# Altium schematic symbol library ProtoWatch_Compiled.SCHLIB: 48 symbols
Pins are listed as number, name and electrical type; pins without a type are passive.

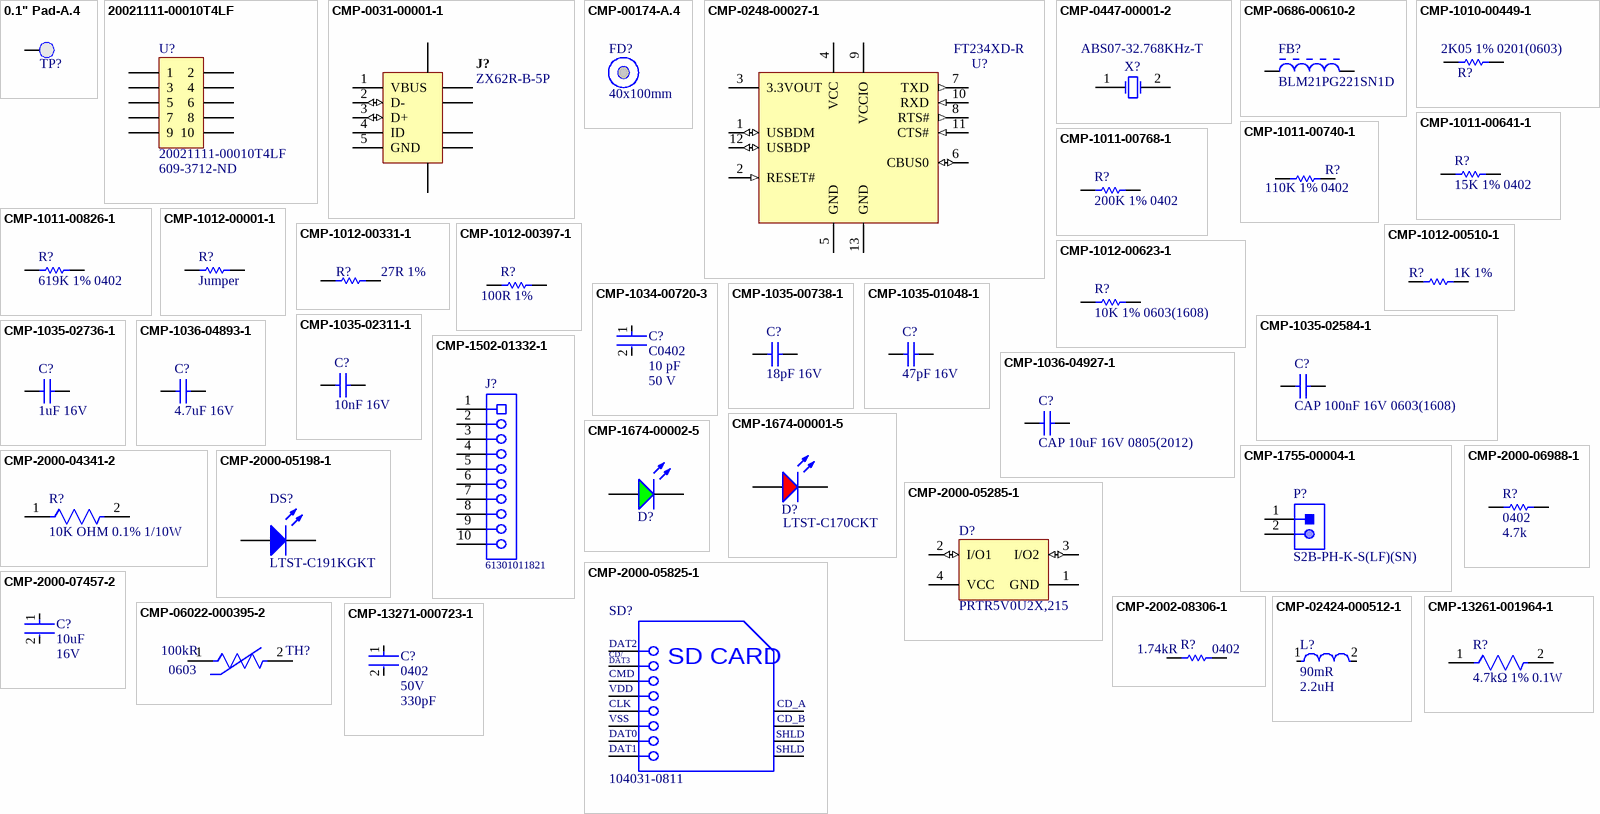
[diagram p0: symbols 0.1" Pad-A.4 to CMP-13271-000723-1]

## 0.1" Pad-A.4
designator TP?, comment 0.1" Pad  (value not drawn)  (no BOM)
footprint PCBComponent
pins: 1 PAD

## 20021111-00010T4LF
designator U?  Supplier Part Number 1: 609-3712-ND
CONN HEADER 10POS UNSHD VERT T/H; Manufacturer: Amphenol / FCI; Stack Height: 2.5 mm; Number of Positions / Contacts: 10; Brand: FCI; Pitch: 1.27 mm; Mounting Angle: Vertical; Current Rating: 10 A; Mating Post Length: 3.05 mm; Voltage Rating: 125 V; Manufacturer Part Number: 20021111-00010T4LF; Mounting Style: Through Hole; Product Category: Headers & Wire Housings; RoHS: Details; Series: Minitek; Product Type: Headers; Type: Unshrouded; Number of Positions: 10; Number of Rows: 2; Contact Plating: Gold; Housing Material: Plastic; Termination Style: Through Hole; Contact Material: Nickel; Packaging: Tube; Factory Pack Quantity: 93; Termination Post Length: 2.3 mm; ComponentLink1URL: https://datasheet.ciiva.com/1433/1079612-1433267.pdf; ComponentLink1Description: https://datasheet.ciiva.com/1433/1079612-1433267.pdf; ComponentLink2URL: https://datasheet.ciiva.com/409/20021111-409158.pdf; ComponentLink2Description: https://datasheet.ciiva.com/409/20021111-409158.pdf; ComponentLink3URL: https://datasheet.ciiva.com/5131/20021111-5131386.pdf; ComponentLink3Description: https://datasheet.ciiva.com/5131/20021111-5131386.pdf; ComponentLink4URL: https://datasheet.ciiva.com/9465/20021111-9465402.pdf; ComponentLink4Description: https://datasheet.ciiva.com/9465/20021111-9465402.pdf; Supplier 1: Digi-Key
footprint 20021111-00010T4LF (CONN HEADER 10POS UNSHD VERT T/H)
pins: 1, 2, 3, 4, 5, 6, 7, 8, 9, 10

## CMP-0031-00001-1
designator J?, comment ZX62R-B-5P
Connector; USBMicro-B,Reverse type, SMT; 5 Position; Right Angle; Manufacturer: Hirose; DatasheetVersion: 08/2010; Operating Temperature: -30 to 85 degC; Mounting Technology: Surface Mount; PartNumber: ZX62R-B-5P; PackageReference: ZX62R-B-5P; ComponentLink2URL: http://www.hirose.co.jp/cataloge_hp/e24200011.pdf; ComponentLink1URL: http://www.hirose.com/â€Ž; ComponentLink2Description: Datasheet; PackageDescription: 5-Pin USB Micro-B R/A Connector; ComponentLink1Description: Manufacturer URL; Manufacturer Part Number: ZX62R-B-5P
footprint HIRO-ZX62R-B-5P_V (USB Micro-B R/A Connector)
pins: 1 VBUS (power), 2 D- (io), 3 D+ (io), 4 ID, 5 GND (power), 6 SHLD, 7 SHLD, 8 SHLD, 9 SHLD, 10 SHLD, 11 SHLD

## CMP-00174-A.4
designator FD?, comment 40x100mm  (mechanical)
Fiducial 40x100mm
footprint Fiducial_FT

## CMP-0248-00027-1
designator U?, comment FT234XD-R
FT234XD USB to BASIC UART IC, -40 to +85 degC, 12-Pin DFN, Pb-Free, Tape and Reel; Manufacturer: FTDI; PackageReference: DFN-12; PackageVersion: Feb-13; DatasheetVersion: ver 1.1, Feb-2013; ComponentLink1URL: http://www.ftdichip.com/; PartNumber: FT234XD-R; ComponentLink2URL: http://www.ftdichip.com/Support/Documents/DataSheets/ICs/DS_FT234XD.pdf; ComponentLink1Description: Manufacturer URL; PackageDescription: 12-Pin Dual Flat No-Lead, 3 x 3 mm Body, 0.45 mm Pitch, Exposed Pad; ComponentLink2Description: Datasheet; Manufacturer Part Number: FT234XD-R
footprint DFN-12_V (SON, 12-Leads, Body 3x3mm, Pitch 0.45mm, Thermal Pad 2.5x1.6mm)
pins: 1 USBDM (io) "USB Data Signal Minus.", 2 RESET# (in) "Reset input (active low).", 3 3.3VOUT (power) "3.3V output at 50mA. May be used to power VCCIO. When VCC is 3.3V; pin 3 is an input pin and should be connected to pin 4.", 4 VCC (power) "5 V (or 3.3V) supply to IC", 5 GND (power) "0V Ground input.", 6 CBUS0 (io) "Configurable CBUS I/O Pin. Function of this pin is configured in the device MTP memory. The default configuration is TXDEN.", 7 TXD (out) "Transmit Asynchronous Data Output.", 8 RTS# (out) "Request to Send Control Output / Handshake Signal.", 9 VCCIO (power) "1.8V - 3.3V supply for the IO cells", 10 RXD (in) "Receiving Asynchronous Data Input.", 11 CTS# (in) "Clear To Send Control Input / Handshake Signal.", 12 USBDP (io) "USB Data Signal Plus.", 13 GND (power) "0V Ground input."

## CMP-0447-00001-2
designator X?, comment ABS07-32.768KHz-T
Crystal, 32.768 kHz, 12.5 pF, -40 to 85 degC, SMD Low Profile 3.2 x 1.5 x 0.9 mm, Tape and Reel; Manufacturer: Abracon; Q Value (Type): 30000; Operation Mode: Flexural Mode (Tuning Fork); Shunt Capacitance (C0): 0.9 to 1.2 pF; Load Capacitance (CL): 12.5 pF; Frequency Tolerance @+25degC: +/- 20 ppm; Drive Level (Type): 0.1 uW; Equivalent Series Resistance (R1): 70 Kohm; Insulation Resistance (Min): 500 Mohm; ComponentLink3URL: http://www.abracon.com/Resonators/ABS07.pdf; PackageDescription: 2-Pin Hand Drawn, Body 3.2x1.5mm, Pitch 2.5mm; Operating Temperature: -40 to 85 degC; ComponentLink2URL: http://www.abracon.com/Resonators/ABS07.pdf; PackageReference: ABS07-2; ComponentLink3Description: Package Specification; ComponentLink1Description: Manufacturer URL; DatasheetVersion: 04.03.13; Mounting Technology: Surface Mount; ComponentLink2Description: Datasheet; ComponentLink1URL: http://www.abracon.com/; PartNumber: ABS07-32.768KHz-T; Packing: Tape and Reel; Frequency: 32.768 kHz; Manufacturer Part Number: ABS07-32.768KHZ-T
footprint ABRA-ABS07-2_V (Hand Drawn, 2-Leads, Body 3.2x1.5mm, Pitch 2.5mm)
pins: 1 X1, 2 X2

## CMP-0686-00610-2
designator FB?, comment BLM21PG221SN1D
Chip Ferrite Bead for Power Lines, 220 Ohm, 2000 mA, -55 to 125 degC, 2 x 1.25 x 1.05 mm SMD, Tape and Reel; Manufacturer: Murata; DC Resistance: 0.045 Ohm Max.; Impedance (at 100 MHz): 220 Ohm +/- 25%; Rated Current: 2000 mA; PartNumber: BLM21PG221SN1D; Mounting Technology: Surface Mount; DatasheetVersion: 08/2013; ComponentLink3URL: http://www.murata.com/products/catalog/pdf/c31e.pdf; ComponentLink1URL: http://www.murata.com/; ComponentLink1Description: Manufacturer URL; ComponentLink2URL: http://www.murata.com/products/catalog/pdf/c31e.pdf; PackageDescription: 2-Pin Chip, Body 2 x 1.25 mm; ComponentLink3Description: Package Specification; Operating Temperature Range: -55 to 125 degC; Packing: Tape and Reel; ComponentLink2Description: Datasheet; PackageReference: BLM21_H1050-2; Manufacturer Part Number: BLM21PG221SN1D
footprint MURA-BLM21-B20-CHIP-2_V1 (Chip Ferrite Bead, 2-Leads, Body 2x1.25mm, Height 1.05mm, 18um Land Pad Thickness, 2A Rated Current)
footprint MURA-BLM21-B20-CHIP-2_V2 (Chip Ferrite Bead, 2-Leads, Body 2x1.25mm, Height 1.05mm, 35/70um Land Pad Thickness, 2A Rated Current)
pins: 1, 2

## CMP-1010-00449-1
designator R?, comment 2K05 1% 0201(0603)
2K05 0.05W 1% 0201 (0603 Metric)  SMD; Manufacturer: Yageo; Manufacturer Part Number: RC0201FR-072K05L; Manufacturer: Panasonic; Manufacturer Part Number: ERJ-1GNF2051C; Manufacturer: Vishay Dale; Manufacturer Part Number: CRCW02012K05FKED; Value: 2050.00 Ohm; Case-EIA: 0201; Case-Metric: 0603; Technology: SMT; Power: 0.05 W; Tolerance: 1 %
footprint RESC0201(0603)_L (Chip Resistor, Body 0.6x0.3mm, IPC High Density)
footprint RESC0201(0603)_N (Chip Resistor, Body 0.6x0.3mm, IPC Medium Density)
footprint RESC0201(0603)_M (Chip Resistor, Body 0.6x0.3mm, IPC Low Density)
pins: 1, 2
1 alternate drawing of the same symbol

## CMP-1011-00641-1
designator R?, comment 15K 1% 0402
15K 0.063W 1% 0402 (1005 Metric)  SMD; Manufacturer: Vishay Dale; Manufacturer Part Number: CRCW040215K0FKTD; Manufacturer: Vishay; Manufacturer Part Number: CRCW040215K0FKED; Manufacturer: Bourns; Manufacturer Part Number: CR0402-FX-1502GLF; Manufacturer: Panasonic; Manufacturer Part Number: ERJ-2RKF1502X; Manufacturer: Yageo; Manufacturer Part Number: RC0402FR-0715KL; Case-Metric: 1005; Value: 15000.00 Ohm; Case-EIA: 0402; Technology: SMT; Power: 0.063 W; Tolerance: 1 %
footprint RESC0402(1005)_M (Chip Resistor, Body 1.0x0.5mm, IPC Low Density)
footprint RESC0402(1005)_N (Chip Resistor, Body 1.0x0.5mm, IPC Medium Density)
footprint RESC0402(1005)_L (Chip Resistor, Body 1.0x0.5mm, IPC High Density)
pins: 1, 2
1 alternate drawing of the same symbol

## CMP-1011-00740-1
designator R?, comment 110K 1% 0402
110K 0.063W 1% 0402 (1005 Metric)  SMD; Manufacturer: Panasonic; Manufacturer Part Number: ERJ-2RKF1103X; Manufacturer: Vishay; Manufacturer Part Number: CRCW0402110KFKED; Manufacturer: Bourns; Manufacturer Part Number: CR0402-FX-1103GLF; Manufacturer: Vishay Dale; Manufacturer Part Number: CRCW0402110KFKTD; Manufacturer: Yageo; Manufacturer Part Number: RC0402FR-07110KL; Case-EIA: 0402; Case-Metric: 1005; Value: 110000.00 Ohm; Technology: SMT; Tolerance: 1 %; Power: 0.063 W
footprint RESC0402(1005)_M (Chip Resistor, Body 1.0x0.5mm, IPC Low Density)
footprint RESC0402(1005)_L (Chip Resistor, Body 1.0x0.5mm, IPC High Density)
footprint RESC0402(1005)_N (Chip Resistor, Body 1.0x0.5mm, IPC Medium Density)
pins: 1, 2
1 alternate drawing of the same symbol

## CMP-1011-00768-1
designator R?, comment 200K 1% 0402
200K 0.063W 1% 0402 (1005 Metric)  SMD; Manufacturer: Panasonic; Manufacturer Part Number: ERJ-2RKF2003X; Manufacturer: Vishay Dale; Manufacturer Part Number: CRCW0402200KFKEE; Manufacturer: Yageo; Manufacturer Part Number: RC0402FR-07200KL; Manufacturer Part Number: CRCW0402200KFKTD; Manufacturer: Bourns; Manufacturer Part Number: CR0402-FX-2003GLF; Manufacturer: Vishay; Manufacturer Part Number: CRCW0402-200KFKED; Value: 200000.00 Ohm; Case-Metric: 1005; Case-EIA: 0402; Tolerance: 1 %; Power: 0.063 W; Technology: SMT
footprint RESC0402(1005)_L (Chip Resistor, Body 1.0x0.5mm, IPC High Density)
footprint RESC0402(1005)_M (Chip Resistor, Body 1.0x0.5mm, IPC Low Density)
footprint RESC0402(1005)_N (Chip Resistor, Body 1.0x0.5mm, IPC Medium Density)
pins: 1, 2
1 alternate drawing of the same symbol

## CMP-1011-00826-1
designator R?, comment 619K 1% 0402
619K 0.063W 1% 0402 (1005 Metric)  SMD; Manufacturer: Vishay; Manufacturer Part Number: CRCW0402619KFKED; Manufacturer: Panasonic; Manufacturer Part Number: ERJ-2RKF6193X; Manufacturer: Bourns; Manufacturer Part Number: CR0402-FX-6193GLF; Manufacturer: Yageo; Manufacturer Part Number: RC0402FR-07619KL; Manufacturer: Vishay Dale; Manufacturer Part Number: CRCW0402619KFKTD; Case-Metric: 1005; Value: 619000.00 Ohm; Case-EIA: 0402; Power: 0.063 W; Tolerance: 1 %; Technology: SMT
footprint RESC0402(1005)_L (Chip Resistor, Body 1.0x0.5mm, IPC High Density)
footprint RESC0402(1005)_N (Chip Resistor, Body 1.0x0.5mm, IPC Medium Density)
footprint RESC0402(1005)_M (Chip Resistor, Body 1.0x0.5mm, IPC Low Density)
pins: 1, 2
1 alternate drawing of the same symbol

## CMP-1012-00001-1
designator R?, comment Jumper
Jumper 0603 (1608 Metric); Manufacturer: Vishay Dale; Manufacturer Part Number: CRCW06030000Z0EC; Manufacturer: Yageo; Manufacturer Part Number: RC0603JR-070RL; Manufacturer: Vishay; Manufacturer Part Number: CRCW0603-0000Z0EA; Manufacturer Part Number: CRCW06030000Z0TA; Manufacturer: Bourns; Manufacturer Part Number: CR0603-J/-000ELF; Manufacturer Part Number: CRCW06030000Z0EB; Manufacturer: Panasonic; Manufacturer Part Number: ERJ-3GEY0R00V; Case-Metric: 1608; Value: 0.00 Ohm; Power: None; Case-EIA: 0603; Technology: SMT; Tolerance: None
footprint RESC0603(1608)_N (Chip Resistor, Body 1.6x0.8mm, IPC Medium Density)
footprint RESC0603(1608)_L (Chip Resistor, Body 1.6x0.8mm, IPC High Density)
footprint RESC0603(1608)_M (Chip Resistor, Body 1.6x0.8mm, IPC Low Density)
pins: 1, 2
1 alternate drawing of the same symbol

## CMP-1012-00331-1
designator R?, comment 27R 1%
27R 0.1W 1% 0603 (1608 Metric)  SMD; Manufacturer: Vishay; Manufacturer Part Number: CRCW060327R0FKEB; Manufacturer: Yageo; Manufacturer Part Number: RC0603FR-0727RL; Manufacturer: Bourns; Manufacturer Part Number: CR0603-FX-27R0ELF; Manufacturer: Vishay Dale; Manufacturer Part Number: CRCW060327R0FKTA; Manufacturer: Panasonic; Manufacturer Part Number: ERJ-3EKF27R0V; Manufacturer Part Number: CRCW060327R0FKEA; Case-EIA: 0603; Value: 27.00 Ohm; Case-Metric: 1608; Technology: SMT; Tolerance: 1 %; Power: 0.1 W
footprint RESC0603(1608)_N (Chip Resistor, Body 1.6x0.8mm, IPC Medium Density)
footprint RESC0603(1608)_M (Chip Resistor, Body 1.6x0.8mm, IPC Low Density)
footprint RESC0603(1608)_L (Chip Resistor, Body 1.6x0.8mm, IPC High Density)
pins: 1, 2
1 alternate drawing of the same symbol

## CMP-1012-00397-1
designator R?, comment 100R 1%
100R 0.1W 1% 0603 (1608 Metric)  SMD; Manufacturer: Vishay Dale; Manufacturer Part Number: CRCW0603100RFKTB; Manufacturer Part Number: CRCW0603100RFKTA; Manufacturer: Bourns; Manufacturer Part Number: CR0603-FX-1000ELF; Manufacturer Part Number: CRCW0603100RFKTC; Manufacturer Part Number: CRCW0603100RFKEC; Manufacturer Part Number: CRCW0603100RFKEA; Manufacturer Part Number: CRCW0603100RFKEB; Manufacturer: Panasonic; Manufacturer Part Number: ERJ3EKF1000V; Manufacturer: Yageo; Manufacturer Part Number: RC0603FR-07100RL; Value: 100.00 Ohm; Case-EIA: 0603; Case-Metric: 1608; Technology: SMT; Tolerance: 1 %; Power: 0.1 W
footprint RESC0603(1608)_M (Chip Resistor, Body 1.6x0.8mm, IPC Low Density)
footprint RESC0603(1608)_L (Chip Resistor, Body 1.6x0.8mm, IPC High Density)
footprint RESC0603(1608)_N (Chip Resistor, Body 1.6x0.8mm, IPC Medium Density)
pins: 1, 2
1 alternate drawing of the same symbol

## CMP-1012-00510-1
designator R?, comment 1K 1%
1K 0.1W 1% 0603 (1608 Metric)  SMD; Manufacturer: Vishay Dale; Manufacturer Part Number: CRCW06031K00FKEB; Manufacturer Part Number: CRCW06031K00FKTA; Manufacturer: Yageo; Manufacturer Part Number: RC0603FR-071KL; Manufacturer Part Number: CRCW06031K00FKEC; Manufacturer Part Number: CRCW06031K00FKTB; Manufacturer: Bourns; Manufacturer Part Number: CR0603-FX-1001ELF; Manufacturer: Panasonic; Manufacturer Part Number: ERJ3EKF1001V; Manufacturer Part Number: CRCW06031K00FKEA; Case-Metric: 1608; Case-EIA: 0603; Value: 1000.00 Ohm; Technology: SMT; Tolerance: 1 %; Power: 0.1 W
footprint RESC0603(1608)_M (Chip Resistor, Body 1.6x0.8mm, IPC Low Density)
footprint RESC0603(1608)_N (Chip Resistor, Body 1.6x0.8mm, IPC Medium Density)
footprint RESC0603(1608)_L (Chip Resistor, Body 1.6x0.8mm, IPC High Density)
pins: 1, 2
1 alternate drawing of the same symbol

## CMP-1012-00623-1
designator R?, comment 10K 1% 0603(1608)
10K 0.1W 1% 0603 (1608 Metric)  SMD; Manufacturer: Panasonic; Manufacturer Part Number: ERJ-3EKF1002V; Manufacturer: Vishay Dale; Manufacturer Part Number: CRCW060310K0FKTC; Manufacturer: Vishay; Manufacturer Part Number: CRCW060310K0FKEA; Manufacturer Part Number: CRCW060310K0FKTA; Manufacturer Part Number: CRCW060310K0FKEC; Manufacturer: Yageo; Manufacturer Part Number: RC0603FR-0710KL; Manufacturer Part Number: CRCW060310K0FKEB; Manufacturer: Bourns; Manufacturer Part Number: CR0603-FX-1002ELF; Manufacturer Part Number: CRCW060310K0FKTB; Value: 10000.00 Ohm; Case-EIA: 0603; Case-Metric: 1608; Power: 0.1 W; Tolerance: 1 %; Technology: SMT
footprint RESC0603(1608)_N (Chip Resistor, Body 1.6x0.8mm, IPC Medium Density)
footprint RESC0603(1608)_L (Chip Resistor, Body 1.6x0.8mm, IPC High Density)
footprint RESC0603(1608)_M (Chip Resistor, Body 1.6x0.8mm, IPC Low Density)
pins: 1, 2
1 alternate drawing of the same symbol

## CMP-1034-00720-3
designator C?, comment value 10 pF  Package: C0402  Voltage Rating: 50 V  (hidden comment: C0402C100D5GAC)
C0402 10 pF C0G 0.5 pF 50 V; Manufacturer: Kemet; Manufacturer Part Number: C0402C100D5GACTU; Manufacturer: TDK; Manufacturer Part Number: C1005C0G1H100D; Tolerance: 0.5 pF; Material: Ceramic; Ipc Land Pattern Name: CAPC10050X50; Device Class L2: Capacitors; Temperature Range High: +125°C; Height: 0.55mm; Temperature Characteristic: C0G; Automotive: No; Device Class L1: Passive Components; ComponentLink2URL: https://content.kemet.com/datasheets/KEM_C1002_X7R_SMD.pdf; Octopart: https://octopart.com/c0402c100d5gac-kemet-2680337; Temperature: -55°C to +125°C; Category: Cap; ComponentLink2Description: Datasheet; Manufacturer Part Number: C0402C100D5GAC; Capacitance: 10 pF; Device Class L3: Ceramic Capacitors; Lead Free: Yes; Temperature Range Low: -55°C; Mouser Description: Cap Ceramic 10pF 50V C0G 0.5pF SMD 0402 125°C Bulk; RoHS: TRUE; Manufacturer: KEMET
footprint FP-C0402-BB-MFG
footprint FP-C0402-BB-IPC_C
footprint FP-C0402-BB-IPC_B
footprint FP-C0402-BB-IPC_A
pins: 1, 2

## CMP-1035-00738-1
designator C?, comment 18pF 16V
CAP 18pF 16V ±5% 0603 (1608 Metric) Thickness 1mm SMD; Manufacturer: Kyocera AVX; Manufacturer Part Number: 0603YA180JAT2A; Manufacturer: Vishay Vitramon; Manufacturer Part Number: VJ0603A180JXJCW1BC; Manufacturer: KEMET; Manufacturer Part Number: C0603C180J4GACTU; Manufacturer Part Number: C0603C180J4GAC; Manufacturer Part Number: VJ0603A180JXJPW1BC; Tolerance: Â±5%; Case-EIA: 0603; Case-Metric: 1608; Max Thickness: 1 mm; Rated Voltage: 16 V; Value: 18pF; Technology: SMT
footprint CAPC0603(1608)100_N (Chip Capacitor, Body 1.6x0.8mm, Height 1.0mm, IPC Medium Density)
footprint CAPC0603(1608)100_M (Chip Capacitor, Body 1.6x0.8mm, Height 1.0mm, IPC Low Density)
footprint CAPC0603(1608)100_L (Chip Capacitor, Body 1.6x0.8mm, Height 1.0mm, IPC High Density)
pins: 1, 2
1 alternate drawing of the same symbol

## CMP-1035-01048-1
designator C?, comment 47pF 16V
CAP 47pF 16V ±0.5pF 0603 (1608 Metric) Thickness 1mm SMD; Manufacturer: KEMET; Manufacturer Part Number: C0603C470D4GAC; Manufacturer Part Number: C0603C470D4GACTU; Case-EIA: 0603; Case-Metric: 1608; Tolerance: Â±0.5pF; Technology: SMT; Value: 47pF; Rated Voltage: 16 V; Max Thickness: 1 mm
footprint CAPC0603(1608)100_L (Chip Capacitor, Body 1.6x0.8mm, Height 1.0mm, IPC High Density)
footprint CAPC0603(1608)100_N (Chip Capacitor, Body 1.6x0.8mm, Height 1.0mm, IPC Medium Density)
footprint CAPC0603(1608)100_M (Chip Capacitor, Body 1.6x0.8mm, Height 1.0mm, IPC Low Density)
pins: 1, 2
1 alternate drawing of the same symbol

## CMP-1035-02311-1
designator C?, comment 10nF 16V
CAP 10nF 16V ±10% 0603 (1608 Metric) Thickness 1mm SMD; Manufacturer: YAGEO; Manufacturer Part Number: CC0603KRX7R7BB103; Case-EIA: 0603; Case-Metric: 1608; Tolerance: Â±10%; Rated Voltage: 16 V; Value: 10nF; Max Thickness: 1 mm; Technology: SMT
footprint CAPC0603(1608)100_L (Chip Capacitor, Body 1.6x0.8mm, Height 1.0mm, IPC High Density)
footprint CAPC0603(1608)100_M (Chip Capacitor, Body 1.6x0.8mm, Height 1.0mm, IPC Low Density)
footprint CAPC0603(1608)100_N (Chip Capacitor, Body 1.6x0.8mm, Height 1.0mm, IPC Medium Density)
pins: 1, 2
1 alternate drawing of the same symbol

## CMP-1035-02584-1
designator C?, comment CAP 100nF 16V 0603(1608)
CAP 100nF 16V ±10% 0603 (1608 Metric) Thickness 1mm SMD; Manufacturer: TDK; Manufacturer Part Number: C1608X7R1C104K; Manufacturer: Vishay; Manufacturer Part Number: VJ0603Y104KXJCW1BC; Manufacturer: Kyocera AVX; Manufacturer Part Number: 0603YC104KAT7A; Manufacturer Part Number: 0603YC104KAT9A; Manufacturer: Vishay Vitramon; Manufacturer Part Number: VJ0603Y104KXJPW1BC; Manufacturer Part Number: 0603YC104KAT2A; Manufacturer: KEMET; Manufacturer Part Number: C0603C104K4RACTU; Manufacturer Part Number: VJ0603Y104KNJAO; Manufacturer: Yageo; Manufacturer Part Number: CC0603KRX7R7BB104; Manufacturer Part Number: C0603C104K4RACTM; Manufacturer Part Number: VJ0603Y104KXJAP; Manufacturer Part Number: VJ0603Y104KXJAC; Manufacturer Part Number: CC0603KPX7R7BB104; Manufacturer Part Number: 0603YC104KAT4A; Manufacturer Part Number: C0603C104K4RAC; Tolerance: Â±10%; Case-EIA: 0603; Case-Metric: 1608; Technology: SMT; Max Thickness: 1 mm; Value: 100nF; Rated Voltage: 16 V
footprint CAPC0603(1608)100_N (Chip Capacitor, Body 1.6x0.8mm, Height 1.0mm, IPC Medium Density)
footprint CAPC0603(1608)100_L (Chip Capacitor, Body 1.6x0.8mm, Height 1.0mm, IPC High Density)
footprint CAPC0603(1608)100_M (Chip Capacitor, Body 1.6x0.8mm, Height 1.0mm, IPC Low Density)
pins: 1, 2
1 alternate drawing of the same symbol

## CMP-1035-02736-1
designator C?, comment 1uF 16V
CAP 1uF 16V ±5% 0603 (1608 Metric) Thickness 1mm SMD; Manufacturer: Kyocera AVX; Manufacturer Part Number: 0603YC105JAT2A; Case-Metric: 1608; Case-EIA: 0603; Tolerance: Â±5%; Technology: SMT; Max Thickness: 1 mm; Rated Voltage: 16 V; Value: 1uF
footprint CAPC0603(1608)100_N (Chip Capacitor, Body 1.6x0.8mm, Height 1.0mm, IPC Medium Density)
footprint CAPC0603(1608)100_L (Chip Capacitor, Body 1.6x0.8mm, Height 1.0mm, IPC High Density)
footprint CAPC0603(1608)100_M (Chip Capacitor, Body 1.6x0.8mm, Height 1.0mm, IPC Low Density)
pins: 1, 2
1 alternate drawing of the same symbol

## CMP-1036-04893-1
designator C?, comment 4.7uF 16V
CAP 4.7uF 16V -20% to +80% 0805 (2012 Metric) Thickness 1.45mm SMD; Manufacturer: KEMET; Manufacturer Part Number: C0805C475Z4VAC; Manufacturer: Yageo; Manufacturer Part Number: CC0805ZRY5V7BB475; Manufacturer: TDK; Manufacturer Part Number: C2012Y5V1C475Z/1.25; Manufacturer: Vishay Vitramon; Manufacturer Part Number: VJ0805V475ZXJTW1BC; Manufacturer Part Number: C2012Y5V1C475Z/0.85; Manufacturer Part Number: CC0805ZKY5V7BB475; Case-Metric: 2012; Case-EIA: 0805; Max Thickness: 1.45 mm; Value: 4.7uF; Rated Voltage: 16 V; Tolerance: -20% to +80%; Technology: SMT
footprint CAPC0805(2012)145_N (Chip Capacitor, Body 2.0x1.2mm, Height 1.45mm, IPC Medium Density)
footprint CAPC0805(2012)145_M (Chip Capacitor, Body 2.0x1.2mm, Height 1.45mm, IPC Low Density)
footprint CAPC0805(2012)145_L (Chip Capacitor, Body 2.0x1.2mm, Height 1.45mm, IPC High Density)
pins: 1, 2
1 alternate drawing of the same symbol

## CMP-1036-04927-1
designator C?, comment CAP 10uF 16V 0805(2012)
CAP 10uF 16V ±10% 0805 (2012 Metric) Thickness 1.45mm SMD; Manufacturer Part Number: CC0805KKX7R7BB106; Case-EIA: 0805; Tolerance: Â±10%; Case-Metric: 2012; Rated Voltage: 16 V; Technology: SMT; Value: 10uF; Max Thickness: 1.45 mm; Manufacturer: *
footprint CAPC0805(2012)145_L (Chip Capacitor, Body 2.0x1.2mm, Height 1.45mm, IPC High Density)
footprint CAPC0805(2012)145_M (Chip Capacitor, Body 2.0x1.2mm, Height 1.45mm, IPC Low Density)
footprint CAPC0805(2012)145_N (Chip Capacitor, Body 2.0x1.2mm, Height 1.45mm, IPC Medium Density)
pins: 1, 2
1 alternate drawing of the same symbol

## CMP-1502-01332-1
designator J?, comment 61301011821
THT Vertical Socket Header WR-PHD, Pitch 2.54 mm, Single Row, 10 pins; Manufacturer: Wurth Elektronik; Manufacturer: Wurth Electronics; Rated Current: 3A; Working Voltage: 250VAC; Gender: Female; Pitch: 2.54mm; Contact Resistance: 20mOhm; Pin Number: 10; Withstanding Voltage: 500VAC; Publisher: WurthElektronik; Orientation: Vertical; Row Number: Single; Package Reference: 61301011821; Packaging: Tray; Datasheet URL: https://katalog.we-online.de/em/datasheet/6130xx11821.pdf; Operating Temperature: -40to125degC; Part Number: 61301011821; Manufacturer URL: http://www.we-online.de; Mounting Technology: THT; Manufacturer Part Number: 61301011821
footprint 61301011821 (Socket Header, Pitch 2.54 mm, THT, Vertical, single row, 10p)
pins: 1, 2, 3, 4, 5, 6, 7, 8, 9, 10

## CMP-1674-00001-5
designator D?, comment LTST-C170CKT
LED Uni-Color Red, 100 mW, 200 mA, -55 to 85 degC, 2-Pin SMD, RoHS, Tape and Reel; Manufacturer: Lite-On; Manufacturer: Vishay Lite-On; PackageReference: C170CKT; ComponentLink1Description: Manufacturer URL; ComponentLink1URL: http://www.us.liteon.com/; Package Quantity: 3000; Packaging: Tape and Reel; Pins: 2; ComponentLink2URL: http://media.digikey.com/pdf/Data%20Sheets/Lite-On%20PDFs/LTST-C170CKT.pdf; Max Operating Temperature: 85 degC; Min Operating Temperature: -55 degC; Mounting Technology: Surface Mount; Mount: Surface Mount; Length: 2 mm; ComponentLink2Description: Datasheet; DatasheetVersion: 03/2003; Height: 1.1 mm; PackageDescription: 2-Pin Surface Mount Device, Body 2 x 1.25 mm; RoHSCompliant: true; Colour: Red; Manufacturer Part Number: LTST-C170CKT
footprint LTST-C170CKT_V (SMD, 2-Leads, Body 2x1.25mm)
pins: 1 A, 2 K

## CMP-1674-00002-5
designator D?, comment LTST-C170GKT  (value not drawn)
LED Uni-Color Green, 100 mW, 120 mA, -55 to 85 degC, 2-Pin SMD, RoHS, Tape and Reel; Manufacturer: Lite-On; Manufacturer: Vishay Lite-On; PackageReference: C170GKT; ComponentLink1Description: Manufacturer URL; ComponentLink1URL: http://www.us.liteon.com/; Height: 1.1 mm; PackageDescription: 2-Pin Surface Mount Device, Body 2 x 1.25 mm; RoHSCompliant: true; Package Quantity: 1; Packaging: Tape and Reel; Mount: Surface Mount; Min Operating Temperature: -55 degC; DatasheetVersion: 03/2003; Max Operating Temperature: 85 degC; Pins: 2; Mounting Technology: Surface Mount; Length: 2 mm; Colour: Green; ComponentLink2URL: http://media.digikey.com/pdf/Data%20Sheets/Lite-On%20PDFs/LTST-C170GKT.pdf; ComponentLink2Description: Datasheet; Manufacturer Part Number: LTST-C170GKT
footprint LTST-C170GKT_V (SMD, 2-Leads, Body 2x1.25mm)
pins: 1 A, 2 K

## CMP-1755-00004-1
designator P?, comment S2B-PH-K-S(LF)(SN)
Male Header, Pitch 2 mm, 1 x 2 Position, Height 4.8 mm, Tail Length 3.4 mm, -25 to 85 degC, RoHS, Bulk; Manufacturer: JST; Case\Package: Radial; Tolerance: 20%; Capacitance: 10 uF; Voltage Rating (DC): 50 V; Packaging: Bulk; ComponentLink1URL: http://www.jst-mfg.com/product/pdf/eng/ePH.pdf; Radiation Hardening: No; Height: 11 mm; Package Quantity: 200; PackageDescription: Male Header, Pitch 2 mm, 1 x 2 Position, Height 4.8 mm, Tail Length 3.4 mm; PackageReference: S2B-PH-K-S; Diameter: 5 mm; Pins: 2; Mount: Through Hole; Max Operating Temperature: 85 degC; Min Operating Temperature: -40 degC; ComponentLink1Description: Datasheet; DatasheetVersion: Dec-12; Length: 11 mm; Lead Pitch: 2 mm; REACH SVHC: No SVHC; Voltage Rating: 50 V; RoHSCompliant: true; Manufacturer Part Number: S2B-PH-K-S(LF)(SN)
footprint JST-S2B-PH-K-S_V (THD, 2-Leads, Body 7.6x5.9mm, Pitch 2mm)
pins: 1, 2

## CMP-2000-04341-2
designator R?, comment 10K OHM 0.1% 1/10W
RES SMD 10K OHM 0.1% 1/10W 0603 RT0603BRB0710KL; Manufacturer: Yageo; Temperature Coefficient: 10 ppm/°C; Tolerance: 0.001; Value: 10KΩ; Power Rating: 0.1W; Voltage Rating: 75V; Lead Free: Yes; ComponentLink2URL: http://www.yageo.com/documents/recent/PYu-RT_1-to-0.01_RoHS_L_9.pdf; Temperature: -55°C to +155°C; Device Class L1: Passive Components; Device Class L3: Chip SMD Resistors; Footprint Url: http://www.yageo.com/exep/pages/download/literatures/PYu-R_Mount_10.pdf; Mouser Description: Thin Film Resistors - SMD 1/10W 10K ohm .1% 10ppm; Ipc Land Pattern Name: RESC16080X45; Device Class L2: Resistors; Manufacturer Part Number: RT0603BRB0710KL; Series: RT; Composition: Thin Film; Temperature Range High: +155°C; RoHS: TRUE; Temperature Range Low: -55°C; Package: RT0603; Octopart: https://octopart.com/rt0603brb0710kl-yageo-22252377; Automotive: No; Height: 0.55mm; Digikey Description: RES SMD 10K OHM 0.1% 1/10W 0603; Category: Res; ComponentLink2Description: Datasheet; Resistance: 10KΩ
footprint FP-RT0603-MFG
footprint FP-RT0603-IPC_C
footprint FP-RT0603-IPC_B
footprint FP-RT0603-IPC_A
pins: 1, 2

## CMP-2000-05198-1
designator DS?, comment LTST-C191KGKT
Chip LED, Green, 574 nm, 40 pF, -55 to 85 degC, 2-Pin SMD, RoHS, Tape and Reel; Manufacturer: Lite-On; Manufacturer: Vishay Lite-On; Rad Hardened: No; Emitting Color: YellowGreen; Product Height (mm): 0.55mm; Forward Voltage: 2.4V; Number of Elements: 1; Dominant Wave Length: 571nm; DELETED: Compliant; Viewing Angle: 130deg; High Brightness: Yes; Peak Wavelength: 574nm; Type: Uni-Color; Forward Current: 30mA; Product Length (mm): 1.6mm; Luminous Intensity: 35mcd; Test Current (It): 20mA; Chip Material: AlGaInP; Product Depth (mm): 0.8mm; Shape Type: Rectangular; Reverse Voltage: 5V; Power Dissipation: 75W; Pin Count: 2; Lens Dimensions: 1.1X0.8X0.37mm; Packaging: TapeandReel; Main Category: ChipLED; Operating Temperature Classification: Industrial; Package Type: ChipLed; Mounting: SurfaceMount; Lum Intensity: 35mcd; Operating Temp Range: -55Cto85C; Datasheet Version: Jan-07; Datasheet URL: http://download.siliconexpert.com/pdfs/2007/08/26/semi_b/manual/lot/ds/ltst-c191kgkt.pdf; Manufacturer URL: http://www.us.liteon.com/; Manufacturer Part Number: LTST-C191KGKT
footprint LITE-ON-LTST-C191KRKT-2_V (Chip, 2-Leads, Body 1.6x0.8mm)
pins: 1 A, 2 K

## CMP-2000-05285-1
designator D?, comment PRTR5V0U2X,215
Ultra Low Capacitance Double Rail-to-Rail ESD Protection Diode, 5.5 V, 1 pF, -40 to 85 degC, 4-Pin SOT143B, RoHS, Tape and Reel; Manufacturer: NXP Semiconductors; Manufacturer Part Number: PRTR5V0U2X215; Capacitance Value: 16pF; Number of Elements: 1; Rad Hardened: No; Reverse Breakdown Voltage: 6V; Working Voltage (Max): 5.5V; Polarity: Uni-Directional; Configuration: Quad; Leakage Current: 0.1uA; Product Height (mm): 1mm; Suppressor Type: DiodeArrays; Product Length (mm): 3mm; Product Depth (mm): 1.4mm; ESD Protection Voltage: 8KV@ContactDisc; Package Type: SOT; Mounting: SurfaceMount; Packaging: TapeandReel; Datasheet Version: Rev. 02, 01/2008; Reverse Stand-off Voltage: 5.5V; Manufacturer URL: http://www.nxp.com/; Operating Temp Range: -40Cto85C; Operating Temperature Classification: Industrial; Working Voltage: 5.5V; Operating Temperature Min Deg. C: -40C; Datasheet URL: https://datasheet.ciiva.com/4479/prtr5v0u2x-102853-4479461.pdf; Leakage Current (Max): 0.1uA; Direction Type: Uni-Directional; Pin Count: 3+Tab; Operating Temperature Max Deg. C: 85C; Mounting Style: SurfaceMount; Package / Case: SOT
footprint NXP-SOT143B-4_V (SOT143, 4-Leads, Body 3x1.4mm)
pins: 1 GND (power) "ground", 2 I/O1 (io) "input/output 1", 3 I/O2 (io) "input/output 2", 4 VCC (power) "supply voltage"

## CMP-2000-05825-1
designator SD?, comment 104031-0811
Micro SD Card, RA, -25 to 85 degC, 8-Pin SMD, RoHS, Tape and Reel; Manufacturer Part Number: 1040310811; Voltage Rating: 10VAC/DC; Number of Contacts: 8; Insertion - Extraction Style: Push-Pull; Pitch: 1.1mm; Mating Cycles: 10000; Brand: Molex; Current Rating: 500mA; Manufacturer URL: http://www.molex.com/; Card Type: microSD; Mounting Type: Standard; Height: 1.42mm; Mounting Technology: SurfaceMount; Contact Plating: Gold; Product Category: MemoryCardConnectors; Package Description: 8-Pin Surface Mount Device, Body 11.95 x 11.4 mm, Pitch 1.1 mm; Datasheet URL: http://www.molex.com/pdm_docs/sd/1040310811_sd.pdf; Termination Style: SMD; Length: 11.4mm; Housing Material: LiquidCrystalPolymer(LCP); Orientation: RightAngle; RoHS: True; Contact Material: PhosphorBronze; Datasheet Version: Rev. E, 04/2006; Packaging: Reel; Manufacturer: Molex; Series: 104031; Product: CardConnectors; Number of Rows: 1Row; Package Reference: 104031-0811
footprint MOLX-104031-0811_V (Micro SD, 8-Leads, Body 11.95x11.4mm, Pitch 1.1mm)
pins: 1 CD/DAT3, 2 CMD, 3 VSS1, 4 VDD, 5 CLK, 6 VSS2, 7 DAT0, 8 DAT1, 9 CD_A, 10 CD_B, 11 SHLD1, 12 SHLD2
text: DAT2; CD/; DAT3; SD CARD; VSS; SHLD

## CMP-2000-06988-1
designator R?, comment Package Reference: 0402  Resistance (Ohms): 4.7k  (hidden comment: RMCF0402JT4K70)
Chip Resistor, 4.7 KOhm, +/- 5%, 0.063 W, -55 to 155 degC, 0402 (1005 Metric), RoHS, Tape and Reel; Manufacturer: Stackpole-Electronics-Inc.; Manufacturer: Stackpole Electronics; Temperature Coefficient: ±100ppm/°C; Power (Watts): 0.063W,1/16W; Tolerance: ±5%; Family: ChipResistor-SurfaceMount; Datasheet Version: 01/2017; Composition: ThickFilm; Operating Temperature: -55°C~155°C; Features: AutomotiveAEC-Q200; Datasheet URL: https://www.seielect.com/Catalog/SEI-RMCF_RMCP.pdf; Package Description: 2-Pin Surface Mount Device, Body 1 x 0.5 mm; Packaging: Digi-Reel®; Package / Case: 0402(1005Metric); Category: Resistors; Mounting Technology: SurfaceMount; Number of Terminations: 2; Supplier Device Package: 0402; Manufacturer URL: https://www.seielect.com/; Series: RMCF; Manufacturer Part Number: RMCF0402JT4K70
footprint RESC1005X40X25LL10T15 (Chip Resistor, 2-Leads, Body 1.1x0.55mm, IPC High Density)
footprint RESC1005X40X25ML10T15 (Chip Resistor, 2-Leads, Body 1.1x0.55mm, IPC Low Density)
footprint RESC1005X40X25NL10T15 (Chip Resistor, 2-Leads, Body 1.1x0.55mm, IPC Medium Density)
pins: 1, 2

## CMP-2000-07457-2
designator C?, comment Capacitance: 10uF  Voltage Rating: 16V  (hidden comment: GRM188R61C106KAALD)
CAP CER 10UF 16V X5R 0603; Manufacturer: Murata; Tolerance: 10%; Material: Ceramic; Temperature Coefficient: 15%; Temperature Characteristic: X5R; Device Class L2: Capacitors; Category: Cap; Temperature Range High: +85°C; Ipc Land Pattern Name: CAPC16080X80; ComponentLink2Description: Datasheet; Temperature: -55°C to +85°C; Mouser Description: Multilayer Ceramic Capacitors MLCC - SMD/SMT 0603 10uF 16volts X5R 10%; Package: GRM18-0.15; RoHS: TRUE; Lead Free: Yes; Value: 10uF; Temperature Range Low: -55°C; Octopart: https://octopart.com/grm188r61c106kaald-murata-46693347; Device Class L3: Ceramic Capacitors; Height: 0.95mm; Automotive: No; Digikey Description: CAP CER 10UF 16V X5R 0603; Manufacturer Part Number: GRM188R61C106KAALD; Device Class L1: Passive Components; ComponentLink2URL: https://search.murata.co.jp/Ceramy/image/img/A01X/G101/ENG/GRM188R61C106KAAL-01A.pdf
footprint FP-GRM18-0_15-MFG
footprint FP-GRM18-0_15-IPC_C
footprint FP-GRM18-0_15-IPC_B
footprint FP-GRM18-0_15-IPC_A
pins: 1, 2

## CMP-2002-08306-1
designator R?, comment Case/Package: 0402  Resistance: 1.74kR  (hidden comment: CRCW04021K74FKED)
Manufacturer: Vishay Dale; Manufacturer: Vishay; Tolerance: 1%; Temperature Coefficient: 100ppm/°C; Max Power Dissipation: 63mW; Voltage Rating: 50V; Part Number: CRCW04021K74FKED; Supplier 1: Digi-Key; Supplier Part Number 1: 541-1.74KLCT-ND; Manufacturer Part Number: CRCW04021K74FKED; RoHS: Yes; Category: Chip SMD Resistors; Stock 1: 1825; Pricing 1: 1=0.10000, 10=0.03300, 100=0.01330, 1000=0.00596, 2500=0.00518, 5000=0.00428 (USD); Number of Pins: 2; Contact Plating: Tin; Weight: 2.3E-05oz; Case Code (Metric): 1005; Case Code (Imperial): 0402; Size Code: 0402; Min Operating Temperature: -55°C; Max Operating Temperature: 155°C; Packaging: Tape and Reel; Package Quantity: 10; Resistor Type: Thick Film; Number of Terminations: 2; Features: Automotive AEC-Q200; Series: CRCW; Power Rating: 63mW; Termination: SMD/SMT; Voltage Rating (DC): 50V; Resistance Tolerance: 1%; Construction: Rectangular; Length: 1mm; Width: 0.02inch; Height: 0.016inch; Depth: 0.5mm; Radiation Hardening: No; Lead Free: Lead Free; RoHS Compliant: Yes; REACH SVHC: Unknown; Military Standard: Not; ComponentLink1URL: https://datasheet.ciiva.com/2464/dcrcwe3-2464006.pdf?src-supplier=Digi-Key; ComponentLink1Description: https://datasheet.ciiva.com/2464/dcrcwe3-2464006.pdf?src-supplier=Digi-Key; ComponentLink2URL: https://datasheet.ciiva.com/2464/dcrcwe3-2464008.pdf?src-supplier=Digi-Key; ComponentLink2Description: https://datasheet.ciiva.com/2464/dcrcwe3-2464008.pdf?src-supplier=Digi-Key; ComponentLink3URL: https://datasheet.ciiva.com/5552/dcrcwe3-109170-5552093.pdf?src-supplier=Mouser; ComponentLink3Description: https://datasheet.ciiva.com/5552/dcrcwe3-109170-5552093.pdf?src-supplier=Mouser; ComponentLink4URL: https://datasheet.ciiva.com/7670/1533075-7670358.pdf?src-supplier=Element14; ComponentLink4Description: https://datasheet.ciiva.com/7670/1533075-7670358.pdf?src-supplier=Element14; ComponentLink5URL: https://datasheet.ciiva.com/2464/dcrcwe3-2464007.pdf?src-supplier=Digi-Key; ComponentLink5Description: https://datasheet.ciiva.com/2464/dcrcwe3-2464007.pdf?src-supplier=Digi-Key; ComponentLink6URL: https://datasheet.ciiva.com/22870/70201119-22870760.pdf?src-supplier=Allied+Electronics; ComponentLink6Description: https://datasheet.ciiva.com/22870/70201119-22870760.pdf?src-supplier=Allied+Electronics
footprint RESC1005X40X25LL05T05 (Chip Resistor, 2-Leads, Body 1.00x0.50mm, IPC High Density)
footprint RESC1005X40X25NL05T05 (Chip Resistor, 2-Leads, Body 1.00x0.50mm, IPC Medium Density)
footprint RESC1005X40X25ML05T05 (Chip Resistor, 2-Leads, Body 1.00x0.50mm, IPC Low Density)
pins: 1, 2
1 alternate drawing of the same symbol

## CMP-02424-000512-1
designator L?, comment DC Resistance (DCR): 90mR  Inductance: 2.2uH  (hidden comment: IHLP1616BZER2R2MA1)
Fixed Inductors Automotive High Saturation Series SMT 2.2uH 2.85A 90mΩ 20%; Manufacturer: Vishay Dale; Test Frequency: 100kHz; Self Resonant Frequency: 39MHz; Shielding: Shielded; Max DC Current: 6A; Radiation Hardening: No; Lead Free: Lead Free; Package Quantity: 4000; Min Operating Temperature: -55°C; Packaging: Tape and Reel; Length: 4.45mm; Case/Package: 1616; Max Operating Temperature: 125°C; Height: 2mm; Depth: 4.31mm; Width: 4.06mm; Tolerance: 20%; Termination: SMD/SMT; Manufacturer Part Number: IHLP1616BZER2R2MA1
footprint FP-IHLP-1616BZ-FP_1_8545x-MFG
pins: 1, 2

## CMP-06022-000395-2
designator TH?, comment Case Code (Imperial): 0603  Resistance: 100kR  (hidden comment: NCP18WF104D03RB)
NTC Thermistor for Temperature Sensor, 0603, 100kΩ, 0.5%, 0.032mA, 5V; Manufacturer: Murata; Max Power Dissipation: 100mW; Case Code (Metric): 1608; Length: 1.6mm; Termination: SMD/SMT; Case/Package: 0603; Tolerance: 0.5%; Width: 0.8mm; Packaging: Tape and Reel; Power Rating: 100mW; Package Quantity: 1; Number of Pins: 2; Height: 0.8mm; Min Operating Temperature: -40°C; Max Operating Temperature: 125°C; Mount: Surface Mount; Depth: 0.8mm; Manufacturer Part Number: NCP18WF104D03RB
footprint FP-NCP18-0_15-MFG
footprint FP-NCP18-0_15-IPC_A
footprint FP-NCP18-0_15-IPC_C
footprint FP-NCP18-0_15-IPC_B
pins: 1, 2

## CMP-13261-001964-1
designator R?, comment 4.7kΩ 1% 0.1W
Res Thick Film 0603 4.7kΩ 1% 0.1W ±100ppm/°C Molded SMD T/R RC1608F472AS; Manufacturer: Samsung; Resistance: 4.7kR; Voltage Rating (DC): 50V; Max Operating Temperature: 155°C; Composition: Thick Film; Lead Free: Lead Free; Case/Package: 0603; Min Operating Temperature: -55°C; Temperature Coefficient: 100ppm/°C; Tolerance: 1%; Contact Plating: Tin; Manufacturer Part Number: RC1608F472AS
footprint FP-RC1608-IPC_B
footprint FP-RC1608-IPC_A
footprint FP-RC1608-MFG
footprint FP-RC1608-IPC_C
pins: 1, 2

## CMP-13271-000723-1
designator C?, comment Case Code (Imperial): 0402  Voltage Rating: 50V  Capacitance: 330pF  (hidden comment: CL05C331JB5NFNC)
Cap Ceramic 330pF 50V C0G ±5% SMD 0402 +125°C Paper T/R; Manufacturer: Samsung; Min Operating Temperature: -55°C; Case Code (Metric): 1005; Radiation Hardening: No; Package Quantity: 1; Height: 0.5mm; Width: 0.02inch; Thickness: 0.022inch; Dielectric: C0G; Case/Package: 0402; Tolerance: 5%; Mount: Surface Mount; Depth: 0.5mm; Length: 0.039inch; Max Operating Temperature: 125°C; Packaging: Tape and Reel; Manufacturer Part Number: CL05C331JB5NFNC
footprint FP-CL853-IPC_C
footprint FP-CL853-IPC_B
footprint FP-CL853-IPC_A
pins: 1, 2

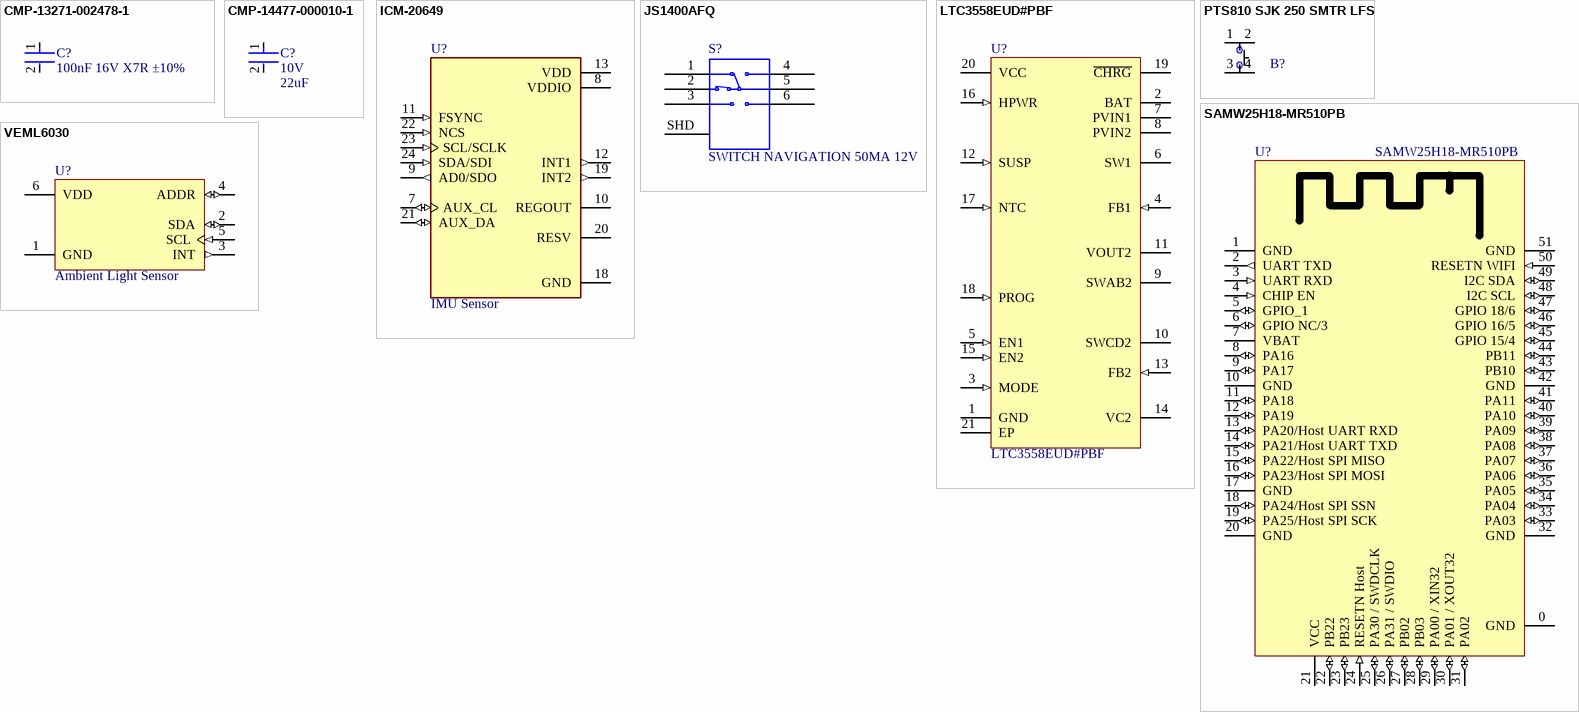
[diagram p1: symbols CMP-13271-002478-1 to VEML6030]

## CMP-13271-002478-1
designator C?, comment 100nF 16V X7R ±10%
Cap Ceramic 100nF 16V X7R ±10% Pad SMD 0603 +125°C T/R CL10B104KO8NNNL; Manufacturer: Samsung; Width: 0.031inch; Case/Package: 0603; Depth: 0.8mm; Packaging: Tape and Reel; Min Operating Temperature: -55°C; Thickness: 0.035inch; Voltage Rating: 16V; Radiation Hardening: No; Package Quantity: 15000; Voltage Rating (DC): 16V; Max Operating Temperature: 125°C; Voltage: 16V; Tolerance: 10%; Dielectric: X7R; Capacitance: 100nF; Lead Free: Lead Free; Height: 0.8mm; Mount: Surface Mount; Length: 1.6mm; Manufacturer Part Number: CL10B104KO8NNNL
footprint FP-CL10-IPC_A
footprint FP-CL10-IPC_C
footprint FP-CL10-IPC_B
pins: 1, 2

## CMP-14477-000010-1
designator C?, comment Voltage Rating: 10V  Capacitance: 22uF  (hidden comment: LMK107BBJ226MA-T)
CAP CER 22UF 10V X5R 0603; Manufacturer: Taiyo Yuden; Tolerance: 20%; Temperature Coefficient: 15%; Material: Ceramic; Category: Cap; Temperature: -55°C to +85°C; Ipc Land Pattern Name: CAPC16080X80; ComponentLink2Description: Datasheet; Automotive: No; Temperature Range High: +85°C; Temperature Range Low: -55°C; Device Class L2: Capacitors; Octopart: https://octopart.com/lmk107bbj226ma-t-taiyo+yuden-76689223; Lead Free: Yes; ComponentLink2URL: https://ds.yuden.co.jp/TYCOMPAS/eu/download?pn=LMK107BBJ226MA-T&fileType=CS; Device Class L3: Ceramic Capacitors; Manufacturer Part Number: LMK107BBJ226MA-T; Package: LMK107B-A; Digikey Description: CAP CER 22UF 10V X5R 0603; Device Class L1: Passive Components; Value: 22uF; RoHS: TRUE; Height: 1mm; Temperature Characteristic: X5R
footprint FP-LMK107B-A-MFG
footprint FP-LMK107B-A-IPC_C
footprint FP-LMK107B-A-IPC_B
footprint FP-LMK107B-A-IPC_A
pins: 1, 2

## ICM-20649
designator U?, comment IMU Sensor
Accelerometer, Gyroscope, Temperature, 6 Axis Sensor IÂ²C, SPI Output; MF: TDK InvenSense; MP: ICM-20649; Package: QFN-24 InvenSense; Price: None; Availability: Unavailable; SnapEDA_Link: https://www.snapeda.com/parts/ICM-20649/TDK%20InvenSense/view-part/557276/?ref=snap; Value: *; Manufacturer Part Number 1: ICM-20649
footprint ICM-20649 (QFN40P300X300X95-24N)
pins: 7 AUX_CL (io), 8 VDDIO (power), 9 AD0/SDO (out), 10 REGOUT, 11 FSYNC (in), 12 INT1 (out), 13 VDD (power), 18 GND (power), 19 INT2 (out), 20 RESV, 21 AUX_DA (io), 22 NCS (in), 23 SCL/SCLK (in), 24 SDA/SDI (in)

## JS1400AFQ
designator S?, comment SWITCH NAVIGATION 50MA 12V
Navigation Switch, 2 - Axis Digital (Mechanical Switch) Output; MF: E-Switch; MP: JS1400AFQ; Digi-Key_Part_Number: EG5857-ND; Value: *; Package: None; manufacturer Part Number 1: JS1400AFQ
footprint SW_JS1400AFQ (SWITCH NAVIGATION 50MA 12V)
pins: 1, 2, 3, 4, 5, 6, SHD SHIELD

## LTC3558EUD#PBF
designator U?
Linear USB Battery Charger with Buck and Buck-Boost Regulator, 4.3 to 5.5 V Vin, 20-pin QFN (UD-20), -40 to 85 degC, Pb-Free; Manufacturer: Linear Technology; Number of Cells: 1; Vin Max(V): 5.5; Vin Min(V): 4.3; Number of Outputs: 2; Mounting Technology: Surface Mount; PartNumber: LTC3558EUD#PBF; PackageReference: UD-20; ComponentLink3URL: http://cds.linear.com/docs/en/packaging/QFN_20_05-08-1720.pdf; ComponentLink2Description: Datasheet; ComponentLink1URL: http://www.linear.com/; RoHS: TRUE; ComponentLink3Description: Package Specification; ComponentLink1Description: Manufacturer URL; PackageDescription: 20-Pin Plastic QFN, Body 3 x 3 mm, Pitch 0.4 mm; ComponentLink2URL: http://cds.linear.com/docs/en/datasheet/3558.pdf; PackageVersion: Rev. A, 06/2010
footprint LT-UD-20_N (QFN, 20-Leads, Body 3.1x3.1mm, Pitch 0.4mm, Thermal Pad 1.65x1.65mm, IPC Medium Density)
pins: 1 GND (power) "Ground. Connect to Exposed Pad (Pin 21).", 2 BAT "Charge Current Output. Provides charge current to the battery and regulates final float voltage to 4.2 V.", 3 MODE (in) "MODE Pin for Switching Regulators. When held high, both regulators operate in Burst Mode Operation. When held low, the buck regulator operates in pulse skip mode and the buck-boost regulator operates in PWM mode. This pin is (See Datasheet)", 4 FB1 (in) "Buck Regulator Feedback Voltage Pin. Receives feedback by a resistor divider connected across the output.", 5 EN1 (in) "Enable Input Pin for the Buck Regulator. This pin is a high impedance input; do not float. Active high.", 6 SW1 (power) "Buck Regulator Switching Node. External inductor connects to this node.", 7 PVIN1 "Input Supply Pin for Buck Regulator. Connect to BAT and PVIN2. A single 10 uF input decoupling capacitor to GND is required.", 8 PVIN2 "Input Supply Pin for Buck-Boost Regulator. Connect to BAT and PVIN1. A single 10 uF input decoupling capacitor to GND is required.", 9 SWAB2 "Switch Node for Buck-Boost Regulator Connected to the Internal Power Switches A and B. External inductor connects between this node and SWCD2.", 10 SWCD2 "Switch Node for Buck-Boost Regulator Connected to the Internal Power Switches C and D. External inductor connects between this node and SWAB2.", 11 VOUT2 "Regulated Output Voltage for Buck-Boost Regulator.", 12 SUSP (in) "Suspend Battery Charging Operation. A voltage greater than 1.2 V on this pin puts the battery charger in suspend mode, disables the charger and resets the termination timer. A weak pull-down current is internally applied to (See Datasheet)", 13 FB2 (in) "Buck-Boost Regulator Feedback Voltage Pin. Receives feedback by a resistor divider connected across the output.", 14 VC2 "Output of the Error Amplifier and Voltage Compensation Node for the Buck-Boost Regulator. External Type I or Type III compensation (to FB2) connects to this pin.", 15 EN2 (in) "Enable Input Pin for the Buck-Boost Regulator. This pin is a high impedance input; do not float. Active high.", 16 HPWR (in) "High Current Battery Charging Enabled. A voltage greater than 1.2 V at this pin programs the BAT pin current at 100% of the maximum programmed charge current. A voltage less than 0.4 V sets the BAT pin current to 20% of the (See Datasheet)", 17 NTC (in) "Input to the NTC Thermistor Monitoring Circuit. The NTC pin connects to a negative temperature coefficient thermistor which is typically co-packaged with the battery pack to determine if the battery is too hot or too cold to (See Datasheet)", 18 PROG (in) "Charge Current Program and Charge Current Monitor Pin. Charge current is programmed by connecting a resistor from PROG to ground. When charging in constant current mode, the PROG pin servos to 1 V if the HPWR pin is pulled (See Datasheet)", 19 ~{CHRG} "Open-Drain Charge Status Output. The C\H\R\G pin indicates the status of the battery charger. Four possible states are represented by C\H\R\G charging, not charging (i.e., the charge current is less than one-tenth of the (See Datasheet)", 20 VCC "Battery Charger Input. A 1 uF decoupling capacitor to GND is recommended.", 21 EP (power) "Ground. The Exposed Pad must be soldered to PCB ground to provide electrical contact and rated thermal performance."

## PTS810 SJK 250 SMTR LFS
designator B?  (value not drawn)
SWITCH TACTILE SPST-NO 0.05A 16V Tactile Switch SPST-NO Top Actuated Surface Mount; Manufacturer: ITT /  C&K Components; Part # Aliases: Y97LT25B5DBFP; Operating Force: 2.6 N; Actuator: Oval; Current Rating: 50 mA; Voltage Rating DC: 16 VDC; Contact Form: SPST; Switch Function: OFF - (ON); Mounting Direction: Straight; Stem Height: 2.5 mm; Brand: C&K Components; Travel: 0.15 mm; Manufacturer Part Number: PTS810SJK250SMTRLFS; Product Category: Tactile Switches; RoHS: Details; Termination Style: J Form Lead; Mounting Style: SMD/SMT; Color: White; Packaging: Reel; Contact Plating: Silver; Operating Temperature Range: - 40 C to + 85 C; Series: PTS810; Factory Pack Quantity: 2900; ComponentLink1URL: https://datasheet.ciiva.com/18514/pts810-4mar13-18514061.pdf; ComponentLink1Description: https://datasheet.ciiva.com/18514/pts810-4mar13-18514061.pdf; ComponentLink2URL: https://datasheet.ciiva.com/18514/pts810-4mar13-18514062.pdf; ComponentLink2Description: https://datasheet.ciiva.com/18514/pts810-4mar13-18514062.pdf; ComponentLink3URL: https://datasheet.ciiva.com/18514/pts810-4mar13-18514063.pdf; ComponentLink3Description: https://datasheet.ciiva.com/18514/pts810-4mar13-18514063.pdf; Supplier 1: Digi-Key; Supplier Part Number 1: CKN10503CT-ND
footprint PTS810 SJK 250 SMTR LFS (SWITCH TACTILE SPST-NO 0.05A 16V)
pins: 1 (power), 2 (power), 3 (power), 4 (power)

## SAMW25H18-MR510PB
designator U?
RF TXRX MODULE WIFI TRACE ANT; Manufacturer: Atmel; Manufacturer Part Number: ATSAMW25H18-MR510PB; Protocol: 802.11b/g/n; Frequency: 2.4GHz; Data Rate: 65Mbps; Power - Output: 17dBm; Sensitivity: -95.5dBm; Serial Interfaces: SPI, UART; Antenna Type: Integrated, Trace; Memory Size: 256kB Flash, 32kB SRAM; Voltage - Supply: 2.7 V ~ 4.2 V; Category: RF/IF and RFID; Family: RF Transceiver Modules; Series: Xplained Pro; Packaging: Tray; RF Family/Standard: WiFi; Modulation: -; Current - Receiving: -; Current - Transmitting: -; Mounting Type: Surface Mount; Operating Temperature: -40°C ~ 85°C; Package / Case: Module; ComponentLink1URL: http://www.atmel.com/devices/ATSAMW25.aspx; ComponentLink1Description: http://www.atmel.com/devices/ATSAMW25.aspx; ComponentLink2URL: http://www.farnell.com/datasheets/1965115.pdf; ComponentLink2Description: http://www.farnell.com/datasheets/1965115.pdf; Supplier 1: Digikey; Stock 1: 120; Pricing 1: 1=19.14 (USD); Supplier Part Number 1: ATSAMW25H18-MR510PB-ND
footprint SAMW25H18-MR510PB
pins: 0 GND (power), 1 GND (power), 2 UART TXD (out), 3 UART RXD (in), 4 CHIP EN (in), 5 GPIO_1 (io), 6 GPIO NC/3 (io), 7 VBAT (power), 8 PA16 (io), 9 PA17 (io), 10 GND (power), 11 PA18 (io), 12 PA19 (io), 13 PA20/Host UART RXD (io), 14 PA21/Host UART TXD (io), 15 PA22/Host SPI MISO (io), 16 PA23/Host SPI MOSI (io), 17 GND (power), 18 PA24/Host SPI SSN (io), 19 PA25/Host SPI SCK (io), 20 GND (power), 21 VCC (power), 22 PB22 (io), 23 PB23 (io), 24 RESETN Host (in), 25 PA30 / SWDCLK (io), 26 PA31 / SWDIO (io), 27 PB02 (io), 28 PB03 (io), 29 PA00 / XIN32 (io), 30 PA01 / XOUT32 (io), 31 PA02 (io), 32 GND (power), 33 PA03 (io), 34 PA04 (io), 35 PA05 (io), 36 PA06 (io), 37 PA07 (io), 38 PA08 (io), 39 PA09 (io), 40 PA10 (io), 41 PA11 (io), 42 GND (power), 43 PB10 (io), 44 PB11 (io), 45 GPIO 15/4 (io), 46 GPIO 16/5 (io), 47 GPIO 18/6 (io), 48 I2C SCL (io), 49 I2C SDA (io), 50 RESETN WIFI (in), 51 GND (power)

## VEML6030
designator U?, comment Ambient Light Sensor
Optical Sensor Ambient 550nm IÂ²C 6-SMD, No Lead; MF: Vishay; MP: VEML6030; Value: *; Price: None; Package: SMD-6 Vishay; SnapEDA_Link: https://www.snapeda.com/parts/VEML6030/Vishay%20Semiconductor%20Opto%20Division/view-part/493148/?ref=snap; Availability: Unavailable; Manufacturer Part Number 1: VEML6030
footprint VISHAY_VEML6030_2X2X0.87
pins: 1 GND (power), 2 SDA (io), 3 INT (out), 4 ADDR (io), 5 SCL (in), 6 VDD (power)